# Altium schematic symbol library AUDIO.SchLib: 1 symbol
Pins are listed as number, name and electrical type; pins without a type are passive.

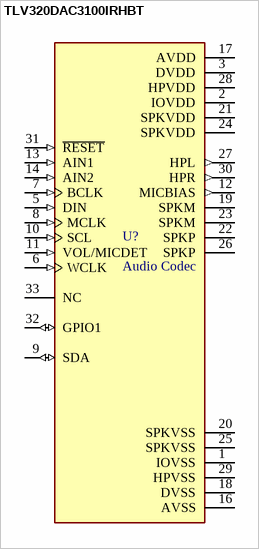
[diagram p0: symbol TLV320DAC3100IRHBT]

## TLV320DAC3100IRHBT
designator U?, comment Audio Codec
Low-Power Stereo Audio DAC With Mono Class-D Speaker Amplifier 32-VQFN -40 to 85; MF: Texas Instruments; MP: TLV320DAC3100IRHBT; Check_prices: https://www.snapeda.com/parts/TLV320DAC3100IRHBT/Texas%20Instruments/view-part/1191598/?ref=eda; Value: *; Purchase-URL: https://pricing.snapeda.com/search/part/TLV320DAC3100IRHBT/?ref=eda; Package: VQFN-32 Texas Instruments; Digi-Key_Part_Number: 296-39266-1-ND; SnapEDA_Link: https://www.snapeda.com/parts/TLV320DAC3100IRHBT/Texas%20Instruments/view-part/1191598/?ref=snap
footprint IC_ADS125H01IRHBT
pins: 1 IOVSS (power), 2 IOVDD, 3 DVDD, 5 DIN (in), 6 WCLK (in), 7 BCLK (in), 8 MCLK (in), 9 SDA (io), 10 SCL (in), 11 VOL/MICDET (in), 12 MICBIAS (out), 13 AIN1 (in), 14 AIN2 (in), 16 AVSS (power), 17 AVDD, 18 DVSS (power), 19 SPKM, 20 SPKVSS (power), 21 SPKVDD, 22 SPKP, 23 SPKM, 24 SPKVDD, 25 SPKVSS (power), 26 SPKP, 27 HPL (out), 28 HPVDD, 29 HPVSS (power), 30 HPR (out), 31 ~{RESET} (in), 32 GPIO1 (io), 33 NC